# Altium schematic symbol library SCH - FET - N-CH - NEXPERIA DUAL MOSFET N-CH SOT363.SCHLIB: 1 symbol
Pins are listed as number, name and electrical type; pins without a type are passive.

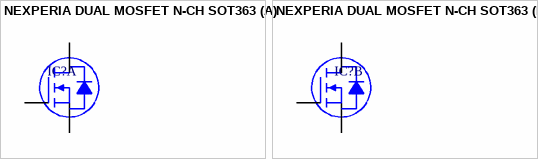
[diagram p0: symbol NEXPERIA DUAL MOSFET N-CH SOT363]

## NEXPERIA DUAL MOSFET N-CH SOT363
designator IC?
part A pins: 1 S1, 2 G1, 6 D1
part B pins: 3 D2, 4 S2, 5 G2